# Altium schematic symbol library Microchip Power Management Battery Management.SchLib: 224 symbols (part 6 of 7)
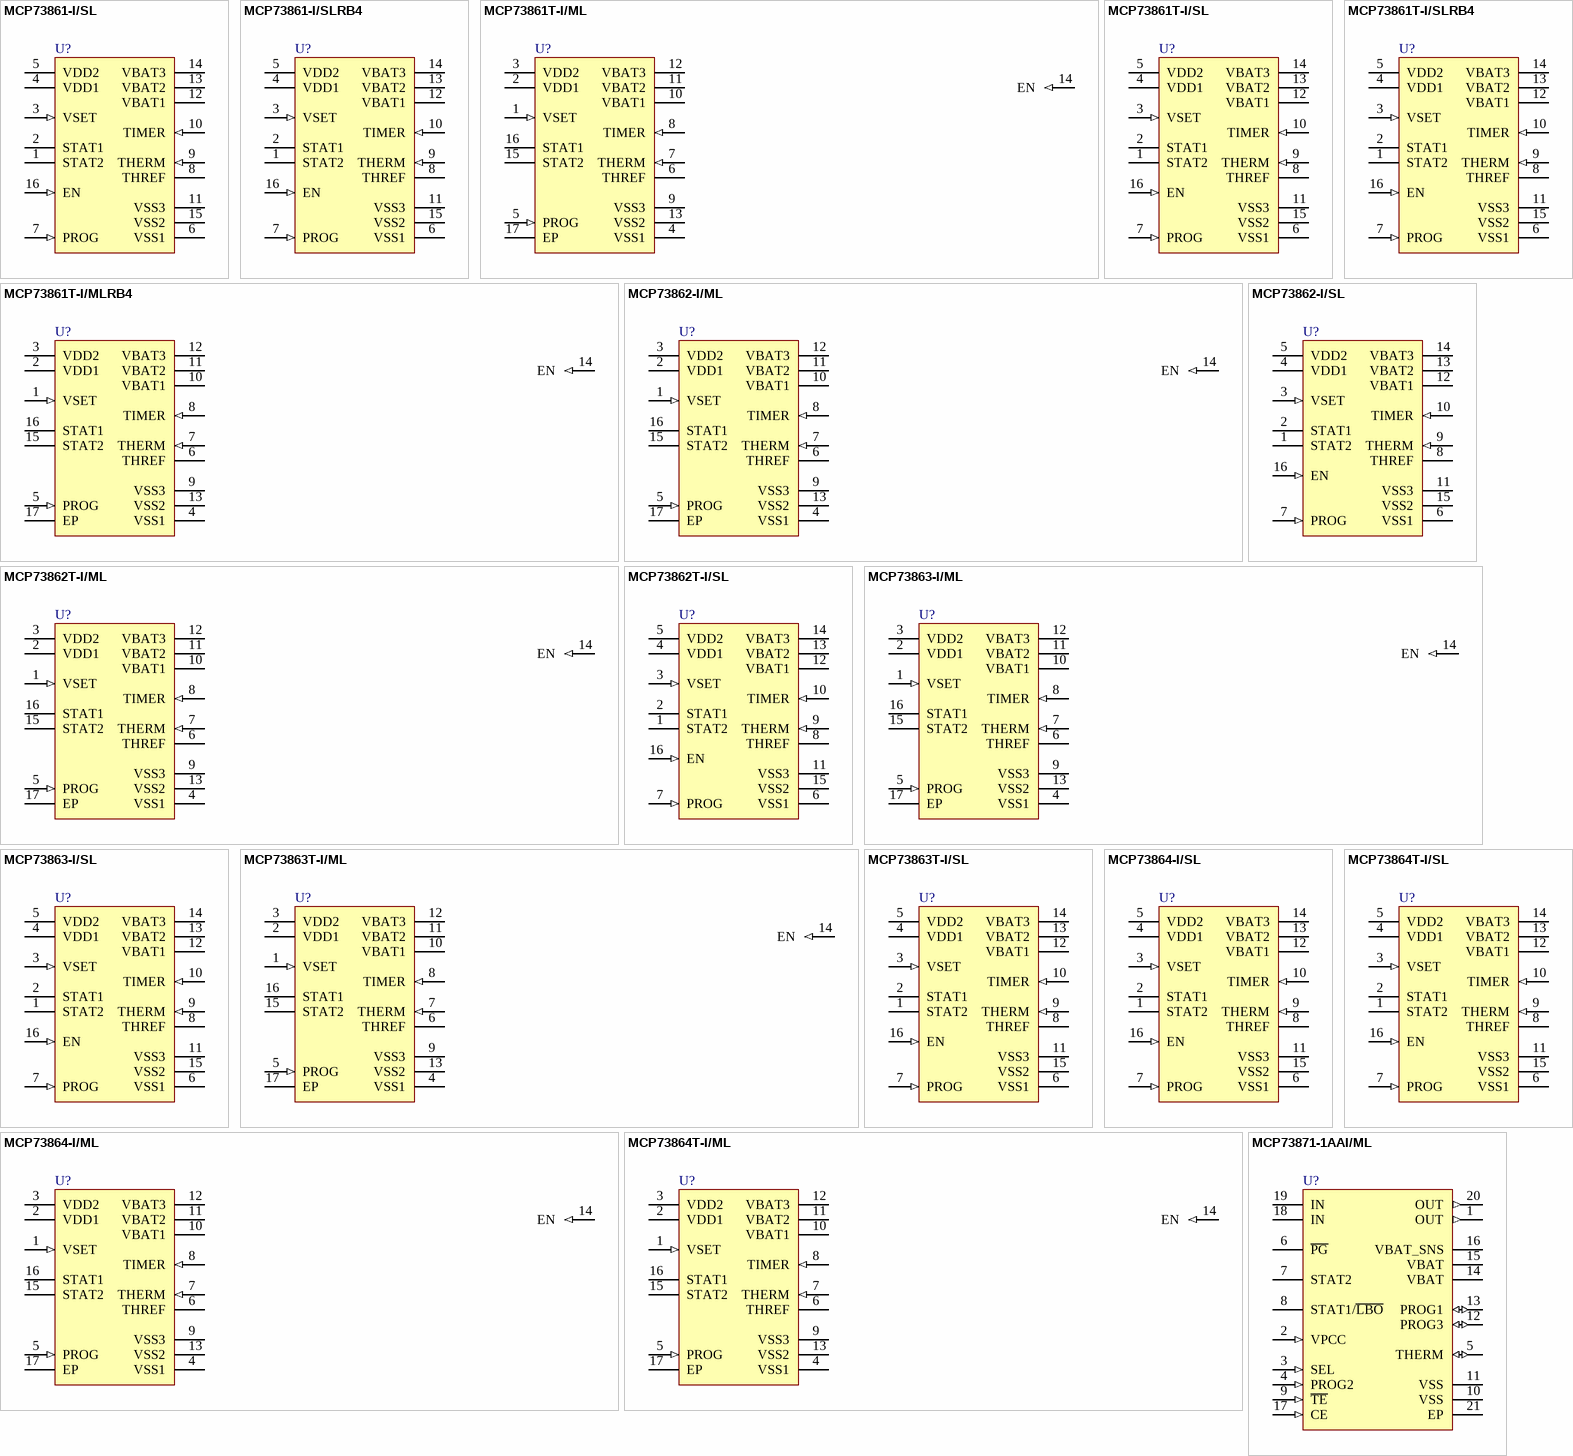
[diagram p11: symbols MCP73861-I/SL to MCP73871-1AAI/ML]

## MCP73861T-I/ML
designator U?
Single-Cell Li-Ion/Li-Polymer Charge Management Controller with Temperature Monitor, 4.1V, 16-Pin QFN, Industrial Temperature, Tape and Reel; Manufacturer: Microchip; PartNumber: MCP73861T-I/ML; DatasheetVersion: revD, Dec-2008; PackageVersion: revBB, Aug-2009; PackageReference: QFN-ML16; PackageDescription: 16-Lead Plastic Quad Flat, No Lead Package (ML) - 4x4x0.9 mm Body [QFN]; Supplier 1: Digi-Key; Supplier Part Number 1: MCP73861T-I/ML-ND; Supplier 2: Mouser; Supplier Part Number 2: 579-MCP73861T-I/ML; Mounting Technology: Surface Mount; Code_JEDEC: MO-220; Code_IPC: QFN65P400X400-16V2; ComponentLink1Description: Manufacturer URL; ComponentLink1URL: http://www.microchip.com/; ComponentLink2Description: Datasheet; ComponentLink2URL: http://ww1.microchip.com/downloads/en/DeviceDoc/21893d.pdf; ComponentLink3Description: Package Specification; ComponentLink3URL: http://www.microchip.com/stellent/groups/techpub_sg/documents/packagingspec/en012702.pdf
footprint QFN-ML16_N (QFN, 16-Leads, Body 4x4mm, Pitch 0.65mm, Thermal Pad 2.8x2.8mm, IPC Medium Density)
footprint QFN-ML16_L (QFN, 16-Leads, Body 4x4mm, Pitch 0.65mm, Thermal Pad 2.8x2.8mm, IPC High Density)
footprint QFN-ML16_M (QFN, 16-Leads, Body 4x4mm, Pitch 0.65mm, Thermal Pad 2.8x2.8mm, IPC Low Density)
pins: 1 VSET (in), 2 VDD1 (power), 3 VDD2 (power), 4 VSS1 (power), 5 PROG (in), 6 THREF (power), 7 THERM (in), 8 TIMER (in), 9 VSS3 (power), 10 VBAT1 (power), 11 VBAT2 (power), 12 VBAT3 (power), 13 VSS2 (power), 14 EN (in), 15 STAT2 (oc), 16 STAT1 (oc), 17 EP (power)

## MCP73861T-I/MLRB4
designator U?
Single-Cell Li-Ion/Li-Polymer Charge Management Controller with Temperature Monitor, 4.1V, 16-Pin QFN, Industrial Temperature, Tape and Reel; Manufacturer: Microchip; PartNumber: MCP73861T-I/MLRB4; DatasheetVersion: revD, Dec-2008; PackageVersion: revBB, Aug-2009; PackageReference: QFN-ML16; PackageDescription: 16-Lead Plastic Quad Flat, No Lead Package (ML) - 4x4x0.9 mm Body [QFN]; Mounting Technology: Surface Mount; Code_JEDEC: MO-220; Code_IPC: QFN65P400X400-16V2; ComponentLink1Description: Manufacturer URL; ComponentLink1URL: http://www.microchip.com/; ComponentLink2Description: Datasheet; ComponentLink2URL: http://ww1.microchip.com/downloads/en/DeviceDoc/21893d.pdf; ComponentLink3Description: Package Specification; ComponentLink3URL: http://www.microchip.com/stellent/groups/techpub_sg/documents/packagingspec/en012702.pdf
footprint QFN-ML16_N (QFN, 16-Leads, Body 4x4mm, Pitch 0.65mm, Thermal Pad 2.8x2.8mm, IPC Medium Density)
footprint QFN-ML16_L (QFN, 16-Leads, Body 4x4mm, Pitch 0.65mm, Thermal Pad 2.8x2.8mm, IPC High Density)
footprint QFN-ML16_M (QFN, 16-Leads, Body 4x4mm, Pitch 0.65mm, Thermal Pad 2.8x2.8mm, IPC Low Density)
pins: 1 VSET (in), 2 VDD1 (power), 3 VDD2 (power), 4 VSS1 (power), 5 PROG (in), 6 THREF (power), 7 THERM (in), 8 TIMER (in), 9 VSS3 (power), 10 VBAT1 (power), 11 VBAT2 (power), 12 VBAT3 (power), 13 VSS2 (power), 14 EN (in), 15 STAT2 (oc), 16 STAT1 (oc), 17 EP (power)

## MCP73861T-I/SL
designator U?
Single-Cell Li-Ion/Li-Polymer Charge Management Controller with Temperature Monitor, 4.1V, 16-Pin SOIC 150mil, Industrial Temperature, Tape and Reel; Manufacturer: Microchip; PartNumber: MCP73861T-I/SL; DatasheetVersion: revD, Dec-2008; PackageVersion: revBB, Aug-2009; PackageReference: SOIC-SL16; PackageDescription: 16-Lead Plastic Small Outline (SL) - Narrow, 3.90mm Body [SOIC]; Supplier 1: Digi-Key; Supplier Part Number 1: MCP73861T-I/SL-ND; Supplier 2: Newark; Supplier Part Number 2: 42M2330; Supplier 3: Mouser; Supplier Part Number 3: 579-MCP73861T-I/SL; Mounting Technology: Surface Mount; Code_JEDEC: MS-012-AC; Code_IPC: SOIC127P600-16; ComponentLink1Description: Manufacturer URL; ComponentLink1URL: http://www.microchip.com/; ComponentLink2Description: Datasheet; ComponentLink2URL: http://ww1.microchip.com/downloads/en/DeviceDoc/21893d.pdf; ComponentLink3Description: Package Specification; ComponentLink3URL: http://www.microchip.com/stellent/groups/techpub_sg/documents/packagingspec/en012702.pdf
footprint SOIC-SL16_N (SOIC, 16-Leads, Body 9.9x3.9mm, Pitch 1.27mm, IPC Medium Density)
footprint SOIC-SL16_L (SOIC, 16-Leads, Body 9.9x3.9mm, Pitch 1.27mm, IPC High Density)
footprint SOIC-SL16_M (SOIC, 16-Leads, Body 9.9x3.9mm, Pitch 1.27mm, IPC Low Density)
pins: 1 STAT2 (oc), 2 STAT1 (oc), 3 VSET (in), 4 VDD1 (power), 5 VDD2 (power), 6 VSS1 (power), 7 PROG (in), 8 THREF (power), 9 THERM (in), 10 TIMER (in), 11 VSS3 (power), 12 VBAT1 (power), 13 VBAT2 (power), 14 VBAT3 (power), 15 VSS2 (power), 16 EN (in)

## MCP73861T-I/SLRB4
designator U?
Single-Cell Li-Ion/Li-Polymer Charge Management Controller with Temperature Monitor, 4.1V, 16-Pin SOIC 150mil, Industrial Temperature, Tape and Reel; Manufacturer: Microchip; PartNumber: MCP73861T-I/SLRB4; DatasheetVersion: revD, Dec-2008; PackageVersion: revBB, Aug-2009; PackageReference: SOIC-SL16; PackageDescription: 16-Lead Plastic Small Outline (SL) - Narrow, 3.90mm Body [SOIC]; Mounting Technology: Surface Mount; Code_JEDEC: MS-012-AC; Code_IPC: SOIC127P600-16; ComponentLink1Description: Manufacturer URL; ComponentLink1URL: http://www.microchip.com/; ComponentLink2Description: Datasheet; ComponentLink2URL: http://ww1.microchip.com/downloads/en/DeviceDoc/21893d.pdf; ComponentLink3Description: Package Specification; ComponentLink3URL: http://www.microchip.com/stellent/groups/techpub_sg/documents/packagingspec/en012702.pdf
footprint SOIC-SL16_N (SOIC, 16-Leads, Body 9.9x3.9mm, Pitch 1.27mm, IPC Medium Density)
footprint SOIC-SL16_L (SOIC, 16-Leads, Body 9.9x3.9mm, Pitch 1.27mm, IPC High Density)
footprint SOIC-SL16_M (SOIC, 16-Leads, Body 9.9x3.9mm, Pitch 1.27mm, IPC Low Density)
pins: 1 STAT2 (oc), 2 STAT1 (oc), 3 VSET (in), 4 VDD1 (power), 5 VDD2 (power), 6 VSS1 (power), 7 PROG (in), 8 THREF (power), 9 THERM (in), 10 TIMER (in), 11 VSS3 (power), 12 VBAT1 (power), 13 VBAT2 (power), 14 VBAT3 (power), 15 VSS2 (power), 16 EN (in)

## MCP73862-I/ML
designator U?
Dual Series cell Li-Ion/Li-Polymer Charge Management Controller with Temperature Monitor, 8.2V, 16-Pin QFN, Industrial Temperature; Manufacturer: Microchip; PartNumber: MCP73862-I/ML; DatasheetVersion: revD, Dec-2008; PackageVersion: revBB, Aug-2009; PackageReference: QFN-ML16; PackageDescription: 16-Lead Plastic Quad Flat, No Lead Package (ML) - 4x4x0.9 mm Body [QFN]; Supplier 1: Digi-Key; Supplier Part Number 1: MCP73862-I/ML-ND; Supplier 2: Mouser; Supplier Part Number 2: 579-MCP73862-I/ML; Mounting Technology: Surface Mount; Code_JEDEC: MO-220; Code_IPC: QFN65P400X400-16V2; ComponentLink1Description: Manufacturer URL; ComponentLink1URL: http://www.microchip.com/; ComponentLink2Description: Datasheet; ComponentLink2URL: http://ww1.microchip.com/downloads/en/DeviceDoc/21893d.pdf; ComponentLink3Description: Package Specification; ComponentLink3URL: http://www.microchip.com/stellent/groups/techpub_sg/documents/packagingspec/en012702.pdf
footprint QFN-ML16_N (QFN, 16-Leads, Body 4x4mm, Pitch 0.65mm, Thermal Pad 2.8x2.8mm, IPC Medium Density)
footprint QFN-ML16_L (QFN, 16-Leads, Body 4x4mm, Pitch 0.65mm, Thermal Pad 2.8x2.8mm, IPC High Density)
footprint QFN-ML16_M (QFN, 16-Leads, Body 4x4mm, Pitch 0.65mm, Thermal Pad 2.8x2.8mm, IPC Low Density)
pins: 1 VSET (in), 2 VDD1 (power), 3 VDD2 (power), 4 VSS1 (power), 5 PROG (in), 6 THREF (power), 7 THERM (in), 8 TIMER (in), 9 VSS3 (power), 10 VBAT1 (power), 11 VBAT2 (power), 12 VBAT3 (power), 13 VSS2 (power), 14 EN (in), 15 STAT2 (oc), 16 STAT1 (oc), 17 EP (power)

## MCP73862-I/SL
designator U?
Dual Series cell Li-Ion/Li-Polymer Charge Management Controller with Temperature Monitor, 8.2V, 16-Pin SOIC 150mil, Industrial Temperature; Manufacturer: Microchip; PartNumber: MCP73862-I/SL; DatasheetVersion: revD, Dec-2008; PackageVersion: revBB, Aug-2009; PackageReference: SOIC-SL16; PackageDescription: 16-Lead Plastic Small Outline (SL) - Narrow, 3.90mm Body [SOIC]; Supplier 1: Digi-Key; Supplier Part Number 1: MCP73862-I/SL-ND; Supplier 2: Farnell; Supplier Part Number 2: 1332163; Supplier 3: Newark; Supplier Part Number 3: 34M7504; Supplier 4: Mouser; Supplier Part Number 4: 579-MCP73862-I/SL; Mounting Technology: Surface Mount; Code_JEDEC: MS-012-AC; Code_IPC: SOIC127P600-16; ComponentLink1Description: Manufacturer URL; ComponentLink1URL: http://www.microchip.com/; ComponentLink2Description: Datasheet; ComponentLink2URL: http://ww1.microchip.com/downloads/en/DeviceDoc/21893d.pdf; ComponentLink3Description: Package Specification; ComponentLink3URL: http://www.microchip.com/stellent/groups/techpub_sg/documents/packagingspec/en012702.pdf
footprint SOIC-SL16_N (SOIC, 16-Leads, Body 9.9x3.9mm, Pitch 1.27mm, IPC Medium Density)
footprint SOIC-SL16_L (SOIC, 16-Leads, Body 9.9x3.9mm, Pitch 1.27mm, IPC High Density)
footprint SOIC-SL16_M (SOIC, 16-Leads, Body 9.9x3.9mm, Pitch 1.27mm, IPC Low Density)
pins: 1 STAT2 (oc), 2 STAT1 (oc), 3 VSET (in), 4 VDD1 (power), 5 VDD2 (power), 6 VSS1 (power), 7 PROG (in), 8 THREF (power), 9 THERM (in), 10 TIMER (in), 11 VSS3 (power), 12 VBAT1 (power), 13 VBAT2 (power), 14 VBAT3 (power), 15 VSS2 (power), 16 EN (in)

## MCP73862T-I/ML
designator U?
Dual Series cell Li-Ion/Li-Polymer Charge Management Controller with Temperature Monitor, 8.2V, 16-Pin QFN, Industrial Temperature, Tape and Reel; Manufacturer: Microchip; PartNumber: MCP73862T-I/ML; DatasheetVersion: revD, Dec-2008; PackageVersion: revBB, Aug-2009; PackageReference: QFN-ML16; PackageDescription: 16-Lead Plastic Quad Flat, No Lead Package (ML) - 4x4x0.9 mm Body [QFN]; Supplier 1: Digi-Key; Supplier Part Number 1: MCP73862T-I/MLTR-ND; Supplier 2: Digi-Key; Supplier Part Number 2: MCP73862T-I/MLCT-ND; Supplier 3: Digi-Key; Supplier Part Number 3: MCP73862T-I/MLDKR-ND; Supplier 4: Mouser; Supplier Part Number 4: 579-MCP73862T-I/ML; Mounting Technology: Surface Mount; Code_JEDEC: MO-220; Code_IPC: QFN65P400X400-16V2; ComponentLink1Description: Manufacturer URL; ComponentLink1URL: http://www.microchip.com/; ComponentLink2Description: Datasheet; ComponentLink2URL: http://ww1.microchip.com/downloads/en/DeviceDoc/21893d.pdf; ComponentLink3Description: Package Specification; ComponentLink3URL: http://www.microchip.com/stellent/groups/techpub_sg/documents/packagingspec/en012702.pdf
footprint QFN-ML16_N (QFN, 16-Leads, Body 4x4mm, Pitch 0.65mm, Thermal Pad 2.8x2.8mm, IPC Medium Density)
footprint QFN-ML16_L (QFN, 16-Leads, Body 4x4mm, Pitch 0.65mm, Thermal Pad 2.8x2.8mm, IPC High Density)
footprint QFN-ML16_M (QFN, 16-Leads, Body 4x4mm, Pitch 0.65mm, Thermal Pad 2.8x2.8mm, IPC Low Density)
pins: 1 VSET (in), 2 VDD1 (power), 3 VDD2 (power), 4 VSS1 (power), 5 PROG (in), 6 THREF (power), 7 THERM (in), 8 TIMER (in), 9 VSS3 (power), 10 VBAT1 (power), 11 VBAT2 (power), 12 VBAT3 (power), 13 VSS2 (power), 14 EN (in), 15 STAT2 (oc), 16 STAT1 (oc), 17 EP (power)

## MCP73862T-I/SL
designator U?
Dual Series cell Li-Ion/Li-Polymer Charge Management Controller with Temperature Monitor, 8.2V, 16-Pin SOIC 150mil, Industrial Temperature, Tape and Reel; Manufacturer: Microchip; PartNumber: MCP73862T-I/SL; DatasheetVersion: revD, Dec-2008; PackageVersion: revBB, Aug-2009; PackageReference: SOIC-SL16; PackageDescription: 16-Lead Plastic Small Outline (SL) - Narrow, 3.90mm Body [SOIC]; Supplier 1: Digi-Key; Supplier Part Number 1: MCP73862T-I/SL-ND; Supplier 2: Mouser; Supplier Part Number 2: 579-MCP73862T-I/SL; Mounting Technology: Surface Mount; Code_JEDEC: MS-012-AC; Code_IPC: SOIC127P600-16; ComponentLink1Description: Manufacturer URL; ComponentLink1URL: http://www.microchip.com/; ComponentLink2Description: Datasheet; ComponentLink2URL: http://ww1.microchip.com/downloads/en/DeviceDoc/21893d.pdf; ComponentLink3Description: Package Specification; ComponentLink3URL: http://www.microchip.com/stellent/groups/techpub_sg/documents/packagingspec/en012702.pdf
footprint SOIC-SL16_N (SOIC, 16-Leads, Body 9.9x3.9mm, Pitch 1.27mm, IPC Medium Density)
footprint SOIC-SL16_L (SOIC, 16-Leads, Body 9.9x3.9mm, Pitch 1.27mm, IPC High Density)
footprint SOIC-SL16_M (SOIC, 16-Leads, Body 9.9x3.9mm, Pitch 1.27mm, IPC Low Density)
pins: 1 STAT2 (oc), 2 STAT1 (oc), 3 VSET (in), 4 VDD1 (power), 5 VDD2 (power), 6 VSS1 (power), 7 PROG (in), 8 THREF (power), 9 THERM (in), 10 TIMER (in), 11 VSS3 (power), 12 VBAT1 (power), 13 VBAT2 (power), 14 VBAT3 (power), 15 VSS2 (power), 16 EN (in)

## MCP73863-I/ML
designator U?
Single-Cell Li-Ion/Li-Polymer Charge Management Controller with Temperature Monitor, 4.2V, 16-Pin QFN, Industrial Temperature; Manufacturer: Microchip; PartNumber: MCP73863-I/ML; DatasheetVersion: revD, Dec-2008; PackageVersion: revBB, Aug-2009; PackageReference: QFN-ML16; PackageDescription: 16-Lead Plastic Quad Flat, No Lead Package (ML) - 4x4x0.9 mm Body [QFN]; Supplier 1: Digi-Key; Supplier Part Number 1: MCP73863-I/ML-ND; Supplier 2: Newark; Supplier Part Number 2: 56K7052; Supplier 3: Mouser; Supplier Part Number 3: 579-MCP73863-I/ML; Mounting Technology: Surface Mount; Code_JEDEC: MO-220; Code_IPC: QFN65P400X400-16V2; ComponentLink1Description: Manufacturer URL; ComponentLink1URL: http://www.microchip.com/; ComponentLink2Description: Datasheet; ComponentLink2URL: http://ww1.microchip.com/downloads/en/DeviceDoc/21893d.pdf; ComponentLink3Description: Package Specification; ComponentLink3URL: http://www.microchip.com/stellent/groups/techpub_sg/documents/packagingspec/en012702.pdf
footprint QFN-ML16_N (QFN, 16-Leads, Body 4x4mm, Pitch 0.65mm, Thermal Pad 2.8x2.8mm, IPC Medium Density)
footprint QFN-ML16_L (QFN, 16-Leads, Body 4x4mm, Pitch 0.65mm, Thermal Pad 2.8x2.8mm, IPC High Density)
footprint QFN-ML16_M (QFN, 16-Leads, Body 4x4mm, Pitch 0.65mm, Thermal Pad 2.8x2.8mm, IPC Low Density)
pins: 1 VSET (in), 2 VDD1 (power), 3 VDD2 (power), 4 VSS1 (power), 5 PROG (in), 6 THREF (power), 7 THERM (in), 8 TIMER (in), 9 VSS3 (power), 10 VBAT1 (power), 11 VBAT2 (power), 12 VBAT3 (power), 13 VSS2 (power), 14 EN (in), 15 STAT2 (oc), 16 STAT1 (oc), 17 EP (power)

## MCP73863-I/SL
designator U?
Single-Cell Li-Ion/Li-Polymer Charge Management Controller with Temperature Monitor, 4.2V, 16-Pin SOIC 150mil, Industrial Temperature; Manufacturer: Microchip; PartNumber: MCP73863-I/SL; DatasheetVersion: revD, Dec-2008; PackageVersion: revBB, Aug-2009; PackageReference: SOIC-SL16; PackageDescription: 16-Lead Plastic Small Outline (SL) - Narrow, 3.90mm Body [SOIC]; Supplier 1: Digi-Key; Supplier Part Number 1: MCP73863-I/SL-ND; Supplier 2: Farnell; Supplier Part Number 2: 1439481; Supplier 3: Newark; Supplier Part Number 3: 58M8989; Supplier 4: Newark; Supplier Part Number 4: 56K7053; Supplier 5: Mouser; Supplier Part Number 5: 579-MCP73863-I/SL; Mounting Technology: Surface Mount; Code_JEDEC: MS-012-AC; Code_IPC: SOIC127P600-16; ComponentLink1Description: Manufacturer URL; ComponentLink1URL: http://www.microchip.com/; ComponentLink2Description: Datasheet; ComponentLink2URL: http://ww1.microchip.com/downloads/en/DeviceDoc/21893d.pdf; ComponentLink3Description: Package Specification; ComponentLink3URL: http://www.microchip.com/stellent/groups/techpub_sg/documents/packagingspec/en012702.pdf
footprint SOIC-SL16_N (SOIC, 16-Leads, Body 9.9x3.9mm, Pitch 1.27mm, IPC Medium Density)
footprint SOIC-SL16_L (SOIC, 16-Leads, Body 9.9x3.9mm, Pitch 1.27mm, IPC High Density)
footprint SOIC-SL16_M (SOIC, 16-Leads, Body 9.9x3.9mm, Pitch 1.27mm, IPC Low Density)
pins: 1 STAT2 (oc), 2 STAT1 (oc), 3 VSET (in), 4 VDD1 (power), 5 VDD2 (power), 6 VSS1 (power), 7 PROG (in), 8 THREF (power), 9 THERM (in), 10 TIMER (in), 11 VSS3 (power), 12 VBAT1 (power), 13 VBAT2 (power), 14 VBAT3 (power), 15 VSS2 (power), 16 EN (in)

## MCP73863T-I/ML
designator U?
Single-Cell Li-Ion/Li-Polymer Charge Management Controller with Temperature Monitor, 4.2V, 16-Pin QFN, Industrial Temperature, Tape and Reel; Manufacturer: Microchip; PartNumber: MCP73863T-I/ML; DatasheetVersion: revD, Dec-2008; PackageVersion: revBB, Aug-2009; PackageReference: QFN-ML16; PackageDescription: 16-Lead Plastic Quad Flat, No Lead Package (ML) - 4x4x0.9 mm Body [QFN]; Supplier 1: Digi-Key; Supplier Part Number 1: MCP73863T-I/ML-ND; Supplier 2: Mouser; Supplier Part Number 2: 579-MCP73863T-I/ML; Mounting Technology: Surface Mount; Code_JEDEC: MO-220; Code_IPC: QFN65P400X400-16V2; ComponentLink1Description: Manufacturer URL; ComponentLink1URL: http://www.microchip.com/; ComponentLink2Description: Datasheet; ComponentLink2URL: http://ww1.microchip.com/downloads/en/DeviceDoc/21893d.pdf; ComponentLink3Description: Package Specification; ComponentLink3URL: http://www.microchip.com/stellent/groups/techpub_sg/documents/packagingspec/en012702.pdf
footprint QFN-ML16_N (QFN, 16-Leads, Body 4x4mm, Pitch 0.65mm, Thermal Pad 2.8x2.8mm, IPC Medium Density)
footprint QFN-ML16_L (QFN, 16-Leads, Body 4x4mm, Pitch 0.65mm, Thermal Pad 2.8x2.8mm, IPC High Density)
footprint QFN-ML16_M (QFN, 16-Leads, Body 4x4mm, Pitch 0.65mm, Thermal Pad 2.8x2.8mm, IPC Low Density)
pins: 1 VSET (in), 2 VDD1 (power), 3 VDD2 (power), 4 VSS1 (power), 5 PROG (in), 6 THREF (power), 7 THERM (in), 8 TIMER (in), 9 VSS3 (power), 10 VBAT1 (power), 11 VBAT2 (power), 12 VBAT3 (power), 13 VSS2 (power), 14 EN (in), 15 STAT2 (oc), 16 STAT1 (oc), 17 EP (power)

## MCP73863T-I/SL
designator U?
Single-Cell Li-Ion/Li-Polymer Charge Management Controller with Temperature Monitor, 4.2V, 16-Pin SOIC 150mil, Industrial Temperature, Tape and Reel; Manufacturer: Microchip; PartNumber: MCP73863T-I/SL; DatasheetVersion: revD, Dec-2008; PackageVersion: revBB, Aug-2009; PackageReference: SOIC-SL16; PackageDescription: 16-Lead Plastic Small Outline (SL) - Narrow, 3.90mm Body [SOIC]; Supplier 1: Digi-Key; Supplier Part Number 1: MCP73863T-I/SL-ND; Supplier 2: Mouser; Supplier Part Number 2: 579-MCP73863T-I/SL; Mounting Technology: Surface Mount; Code_JEDEC: MS-012-AC; Code_IPC: SOIC127P600-16; ComponentLink1Description: Manufacturer URL; ComponentLink1URL: http://www.microchip.com/; ComponentLink2Description: Datasheet; ComponentLink2URL: http://ww1.microchip.com/downloads/en/DeviceDoc/21893d.pdf; ComponentLink3Description: Package Specification; ComponentLink3URL: http://www.microchip.com/stellent/groups/techpub_sg/documents/packagingspec/en012702.pdf
footprint SOIC-SL16_N (SOIC, 16-Leads, Body 9.9x3.9mm, Pitch 1.27mm, IPC Medium Density)
footprint SOIC-SL16_L (SOIC, 16-Leads, Body 9.9x3.9mm, Pitch 1.27mm, IPC High Density)
footprint SOIC-SL16_M (SOIC, 16-Leads, Body 9.9x3.9mm, Pitch 1.27mm, IPC Low Density)
pins: 1 STAT2 (oc), 2 STAT1 (oc), 3 VSET (in), 4 VDD1 (power), 5 VDD2 (power), 6 VSS1 (power), 7 PROG (in), 8 THREF (power), 9 THERM (in), 10 TIMER (in), 11 VSS3 (power), 12 VBAT1 (power), 13 VBAT2 (power), 14 VBAT3 (power), 15 VSS2 (power), 16 EN (in)

## MCP73864-I/ML
designator U?
Dual Series cell Li-Ion/Li-Polymer Charge Management Controller with Temperature Monitor, 8.4V, 16-Pin QFN, Industrial Temperature; Manufacturer: Microchip; PartNumber: MCP73864-I/ML; DatasheetVersion: revD, Dec-2008; PackageVersion: revBB, Aug-2009; PackageReference: QFN-ML16; PackageDescription: 16-Lead Plastic Quad Flat, No Lead Package (ML) - 4x4x0.9 mm Body [QFN]; Supplier 1: Digi-Key; Supplier Part Number 1: MCP73864-I/ML-ND; Supplier 2: Newark; Supplier Part Number 2: 56K7056; Supplier 3: Mouser; Supplier Part Number 3: 579-MCP73864-I/ML; Mounting Technology: Surface Mount; Code_JEDEC: MO-220; Code_IPC: QFN65P400X400-16V2; ComponentLink1Description: Manufacturer URL; ComponentLink1URL: http://www.microchip.com/; ComponentLink2Description: Datasheet; ComponentLink2URL: http://ww1.microchip.com/downloads/en/DeviceDoc/21893d.pdf; ComponentLink3Description: Package Specification; ComponentLink3URL: http://www.microchip.com/stellent/groups/techpub_sg/documents/packagingspec/en012702.pdf
footprint QFN-ML16_N (QFN, 16-Leads, Body 4x4mm, Pitch 0.65mm, Thermal Pad 2.8x2.8mm, IPC Medium Density)
footprint QFN-ML16_L (QFN, 16-Leads, Body 4x4mm, Pitch 0.65mm, Thermal Pad 2.8x2.8mm, IPC High Density)
footprint QFN-ML16_M (QFN, 16-Leads, Body 4x4mm, Pitch 0.65mm, Thermal Pad 2.8x2.8mm, IPC Low Density)
pins: 1 VSET (in), 2 VDD1 (power), 3 VDD2 (power), 4 VSS1 (power), 5 PROG (in), 6 THREF (power), 7 THERM (in), 8 TIMER (in), 9 VSS3 (power), 10 VBAT1 (power), 11 VBAT2 (power), 12 VBAT3 (power), 13 VSS2 (power), 14 EN (in), 15 STAT2 (oc), 16 STAT1 (oc), 17 EP (power)

## MCP73864-I/SL
designator U?
Dual Series cell Li-Ion/Li-Polymer Charge Management Controller with Temperature Monitor, 8.4V, 16-Pin SOIC 150mil, Industrial Temperature; Manufacturer: Microchip; PartNumber: MCP73864-I/SL; DatasheetVersion: revD, Dec-2008; PackageVersion: revBB, Aug-2009; PackageReference: SOIC-SL16; PackageDescription: 16-Lead Plastic Small Outline (SL) - Narrow, 3.90mm Body [SOIC]; Supplier 1: Digi-Key; Supplier Part Number 1: MCP73864-I/SL-ND; Supplier 2: Farnell; Supplier Part Number 2: 1439482; Supplier 3: Newark; Supplier Part Number 3: 58M8990; Supplier 4: Newark; Supplier Part Number 4: 27M0235; Supplier 5: Mouser; Supplier Part Number 5: 579-MCP73864-I/SL; Mounting Technology: Surface Mount; Code_JEDEC: MS-012-AC; Code_IPC: SOIC127P600-16; ComponentLink1Description: Manufacturer URL; ComponentLink1URL: http://www.microchip.com/; ComponentLink2Description: Datasheet; ComponentLink2URL: http://ww1.microchip.com/downloads/en/DeviceDoc/21893d.pdf; ComponentLink3Description: Package Specification; ComponentLink3URL: http://www.microchip.com/stellent/groups/techpub_sg/documents/packagingspec/en012702.pdf
footprint SOIC-SL16_N (SOIC, 16-Leads, Body 9.9x3.9mm, Pitch 1.27mm, IPC Medium Density)
footprint SOIC-SL16_L (SOIC, 16-Leads, Body 9.9x3.9mm, Pitch 1.27mm, IPC High Density)
footprint SOIC-SL16_M (SOIC, 16-Leads, Body 9.9x3.9mm, Pitch 1.27mm, IPC Low Density)
pins: 1 STAT2 (oc), 2 STAT1 (oc), 3 VSET (in), 4 VDD1 (power), 5 VDD2 (power), 6 VSS1 (power), 7 PROG (in), 8 THREF (power), 9 THERM (in), 10 TIMER (in), 11 VSS3 (power), 12 VBAT1 (power), 13 VBAT2 (power), 14 VBAT3 (power), 15 VSS2 (power), 16 EN (in)

## MCP73864T-I/ML
designator U?
Dual Series cell Li-Ion/Li-Polymer Charge Management Controller with Temperature Monitor, 8.4V, 16-Pin QFN, Industrial Temperature, Tape and Reel; Manufacturer: Microchip; PartNumber: MCP73864T-I/ML; DatasheetVersion: revD, Dec-2008; PackageVersion: revBB, Aug-2009; PackageReference: QFN-ML16; PackageDescription: 16-Lead Plastic Quad Flat, No Lead Package (ML) - 4x4x0.9 mm Body [QFN]; Supplier 1: Digi-Key; Supplier Part Number 1: MCP73864T-I/ML-ND; Supplier 2: Mouser; Supplier Part Number 2: 579-MCP73864T-I/ML; Mounting Technology: Surface Mount; Code_JEDEC: MO-220; Code_IPC: QFN65P400X400-16V2; ComponentLink1Description: Manufacturer URL; ComponentLink1URL: http://www.microchip.com/; ComponentLink2Description: Datasheet; ComponentLink2URL: http://ww1.microchip.com/downloads/en/DeviceDoc/21893d.pdf; ComponentLink3Description: Package Specification; ComponentLink3URL: http://www.microchip.com/stellent/groups/techpub_sg/documents/packagingspec/en012702.pdf
footprint QFN-ML16_N (QFN, 16-Leads, Body 4x4mm, Pitch 0.65mm, Thermal Pad 2.8x2.8mm, IPC Medium Density)
footprint QFN-ML16_L (QFN, 16-Leads, Body 4x4mm, Pitch 0.65mm, Thermal Pad 2.8x2.8mm, IPC High Density)
footprint QFN-ML16_M (QFN, 16-Leads, Body 4x4mm, Pitch 0.65mm, Thermal Pad 2.8x2.8mm, IPC Low Density)
pins: 1 VSET (in), 2 VDD1 (power), 3 VDD2 (power), 4 VSS1 (power), 5 PROG (in), 6 THREF (power), 7 THERM (in), 8 TIMER (in), 9 VSS3 (power), 10 VBAT1 (power), 11 VBAT2 (power), 12 VBAT3 (power), 13 VSS2 (power), 14 EN (in), 15 STAT2 (oc), 16 STAT1 (oc), 17 EP (power)

## MCP73864T-I/SL
designator U?
Dual Series cell Li-Ion/Li-Polymer Charge Management Controller with Temperature Monitor, 8.4V, 16-Pin SOIC 150mil, Industrial Temperature, Tape and Reel; Manufacturer: Microchip; PartNumber: MCP73864T-I/SL; DatasheetVersion: revD, Dec-2008; PackageVersion: revBB, Aug-2009; PackageReference: SOIC-SL16; PackageDescription: 16-Lead Plastic Small Outline (SL) - Narrow, 3.90mm Body [SOIC]; Supplier 1: Digi-Key; Supplier Part Number 1: MCP73864T-I/SL-ND; Supplier 2: Mouser; Supplier Part Number 2: 579-MCP73864T-I/SL; Mounting Technology: Surface Mount; Code_JEDEC: MS-012-AC; Code_IPC: SOIC127P600-16; ComponentLink1Description: Manufacturer URL; ComponentLink1URL: http://www.microchip.com/; ComponentLink2Description: Datasheet; ComponentLink2URL: http://ww1.microchip.com/downloads/en/DeviceDoc/21893d.pdf; ComponentLink3Description: Package Specification; ComponentLink3URL: http://www.microchip.com/stellent/groups/techpub_sg/documents/packagingspec/en012702.pdf
footprint SOIC-SL16_N (SOIC, 16-Leads, Body 9.9x3.9mm, Pitch 1.27mm, IPC Medium Density)
footprint SOIC-SL16_L (SOIC, 16-Leads, Body 9.9x3.9mm, Pitch 1.27mm, IPC High Density)
footprint SOIC-SL16_M (SOIC, 16-Leads, Body 9.9x3.9mm, Pitch 1.27mm, IPC Low Density)
pins: 1 STAT2 (oc), 2 STAT1 (oc), 3 VSET (in), 4 VDD1 (power), 5 VDD2 (power), 6 VSS1 (power), 7 PROG (in), 8 THREF (power), 9 THERM (in), 10 TIMER (in), 11 VSS3 (power), 12 VBAT1 (power), 13 VBAT2 (power), 14 VBAT3 (power), 15 VSS2 (power), 16 EN (in)

## MCP73871-1AAI/ML
designator U?
Stand-Alone System Load Sharing and Li-Ion/Li-Polymer Battery Charge Management Controller, 4.1V, 20-Pin QFN, Industrial Temperature; Manufacturer: Microchip; PartNumber: MCP73871-1AAI/ML; DatasheetVersion: revB, May-2009; PackageVersion: revBB, Aug-2009; PackageReference: QFN-ML20; PackageDescription: 20-Lead Plastic Quad Flat, No Lead Package (ML) - 4x4x0.9 mm Body [QFN]; Mounting Technology: Surface Mount; ComponentLink1Description: Manufacturer URL; ComponentLink1URL: http://www.microchip.com/; ComponentLink2Description: Datasheet; ComponentLink2URL: http://ww1.microchip.com/downloads/en/DeviceDoc/22090b.pdf; ComponentLink3Description: Package Specification; ComponentLink3URL: http://www.microchip.com/stellent/groups/techpub_sg/documents/packagingspec/en012702.pdf
footprint QFN-ML20_N (QFN, 20-Leads, Body 4x4mm, Pitch 0.5mm, Thermal Pad 2.8x2.8mm, IPC Medium Density)
footprint QFN-ML20_L (QFN, 20-Leads, Body 4x4mm, Pitch 0.5mm, Thermal Pad 2.8x2.8mm, IPC High Density)
footprint QFN-ML20_M (QFN, 20-Leads, Body 4x4mm, Pitch 0.5mm, Thermal Pad 2.8x2.8mm, IPC Low Density)
pins: 1 OUT (out), 2 VPCC (in), 3 SEL (in), 4 PROG2 (in), 5 THERM (io), 6 ~{PG} (oc), 7 STAT2 (oc), 8 STAT1/~{LBO} (oc), 9 ~{TE} (in), 10 VSS (power), 11 VSS (power), 12 PROG3 (io), 13 PROG1 (io), 14 VBAT (power), 15 VBAT (power), 16 VBAT_SNS (power), 17 CE (in), 18 IN (power), 19 IN (power), 20 OUT (out), 21 EP (power)

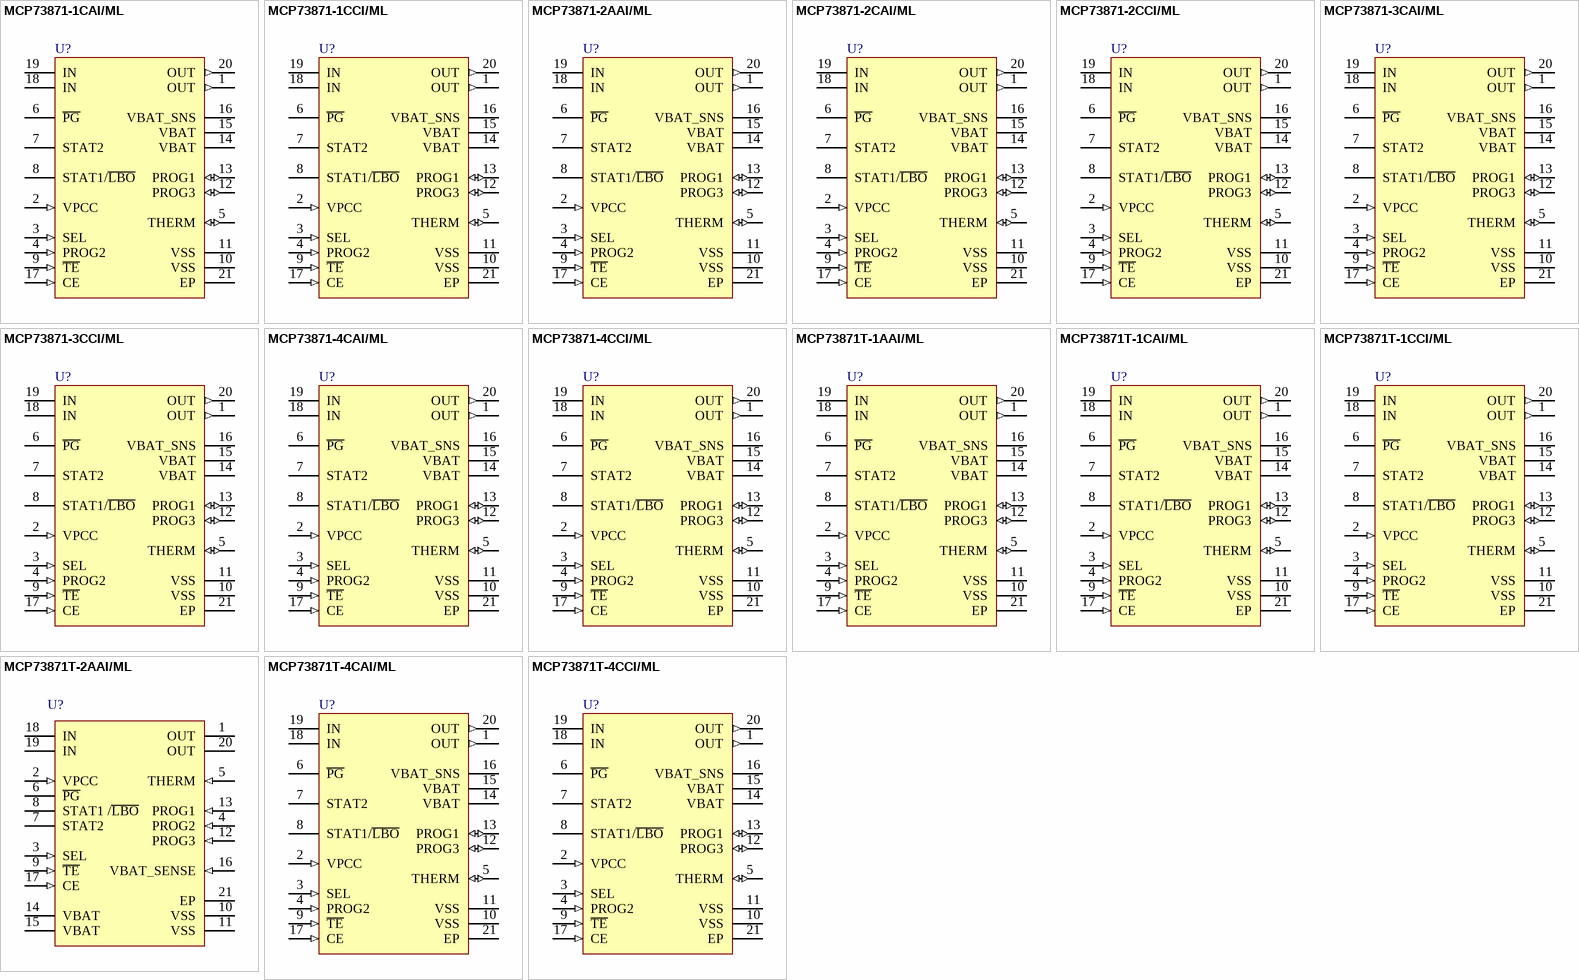
[diagram p6: symbols MCP73871-1CAI/ML to MCP73871T-4CCI/ML]

## MCP73871-1CAI/ML
designator U?
Stand-Alone System Load Sharing and Li-Ion/Li-Polymer Battery Charge Management Controller, 4.1V, 20-Pin QFN, Industrial Temperature; Manufacturer: Microchip; PartNumber: MCP73871-1CAI/ML; DatasheetVersion: revB, May-2009; PackageVersion: revBB, Aug-2009; PackageReference: QFN-ML20; PackageDescription: 20-Lead Plastic Quad Flat, No Lead Package (ML) - 4x4x0.9 mm Body [QFN]; Mounting Technology: Surface Mount; ComponentLink1Description: Manufacturer URL; ComponentLink1URL: http://www.microchip.com/; ComponentLink2Description: Datasheet; ComponentLink2URL: http://ww1.microchip.com/downloads/en/DeviceDoc/22090b.pdf; ComponentLink3Description: Package Specification; ComponentLink3URL: http://www.microchip.com/stellent/groups/techpub_sg/documents/packagingspec/en012702.pdf
footprint QFN-ML20_N (QFN, 20-Leads, Body 4x4mm, Pitch 0.5mm, Thermal Pad 2.8x2.8mm, IPC Medium Density)
footprint QFN-ML20_L (QFN, 20-Leads, Body 4x4mm, Pitch 0.5mm, Thermal Pad 2.8x2.8mm, IPC High Density)
footprint QFN-ML20_M (QFN, 20-Leads, Body 4x4mm, Pitch 0.5mm, Thermal Pad 2.8x2.8mm, IPC Low Density)
pins: 1 OUT (out), 2 VPCC (in), 3 SEL (in), 4 PROG2 (in), 5 THERM (io), 6 ~{PG} (oc), 7 STAT2 (oc), 8 STAT1/~{LBO} (oc), 9 ~{TE} (in), 10 VSS (power), 11 VSS (power), 12 PROG3 (io), 13 PROG1 (io), 14 VBAT (power), 15 VBAT (power), 16 VBAT_SNS (power), 17 CE (in), 18 IN (power), 19 IN (power), 20 OUT (out), 21 EP (power)

## MCP73871-1CCI/ML
designator U?
Stand-Alone System Load Sharing and Li-Ion/Li-Polymer Battery Charge Management Controller, 4.1V, 20-Pin QFN, Industrial Temperature; Manufacturer: Microchip; PartNumber: MCP73871-1CCI/ML; DatasheetVersion: revB, May-2009; PackageVersion: revBB, Aug-2009; PackageReference: QFN-ML20; PackageDescription: 20-Lead Plastic Quad Flat, No Lead Package (ML) - 4x4x0.9 mm Body [QFN]; Mounting Technology: Surface Mount; ComponentLink1Description: Manufacturer URL; ComponentLink1URL: http://www.microchip.com/; ComponentLink2Description: Datasheet; ComponentLink2URL: http://ww1.microchip.com/downloads/en/DeviceDoc/22090b.pdf; ComponentLink3Description: Package Specification; ComponentLink3URL: http://www.microchip.com/stellent/groups/techpub_sg/documents/packagingspec/en012702.pdf
footprint QFN-ML20_N (QFN, 20-Leads, Body 4x4mm, Pitch 0.5mm, Thermal Pad 2.8x2.8mm, IPC Medium Density)
footprint QFN-ML20_L (QFN, 20-Leads, Body 4x4mm, Pitch 0.5mm, Thermal Pad 2.8x2.8mm, IPC High Density)
footprint QFN-ML20_M (QFN, 20-Leads, Body 4x4mm, Pitch 0.5mm, Thermal Pad 2.8x2.8mm, IPC Low Density)
pins: 1 OUT (out), 2 VPCC (in), 3 SEL (in), 4 PROG2 (in), 5 THERM (io), 6 ~{PG} (oc), 7 STAT2 (oc), 8 STAT1/~{LBO} (oc), 9 ~{TE} (in), 10 VSS (power), 11 VSS (power), 12 PROG3 (io), 13 PROG1 (io), 14 VBAT (power), 15 VBAT (power), 16 VBAT_SNS (power), 17 CE (in), 18 IN (power), 19 IN (power), 20 OUT (out), 21 EP (power)

## MCP73871-2AAI/ML
designator U?
Stand-Alone System Load Sharing and Li-Ion/Li-Polymer Battery Charge Management Controller, 4.2V, 20-Pin QFN, Industrial Temperature; Manufacturer: Microchip; PartNumber: MCP73871-2AAI/ML; DatasheetVersion: revB, May-2009; PackageVersion: revBB, Aug-2009; PackageReference: QFN-ML20; PackageDescription: 20-Lead Plastic Quad Flat, No Lead Package (ML) - 4x4x0.9 mm Body [QFN]; Supplier 1: Digi-Key; Supplier Part Number 1: MCP73871-2AAI/ML-ND; Supplier 2: Farnell; Supplier Part Number 2: 1642487; Supplier 3: Newark; Supplier Part Number 3: 54M4955; Supplier 4: Mouser; Supplier Part Number 4: 579-MCP73871-2AAI/ML; Mounting Technology: Surface Mount; ComponentLink1Description: Manufacturer URL; ComponentLink1URL: http://www.microchip.com/; ComponentLink2Description: Datasheet; ComponentLink2URL: http://ww1.microchip.com/downloads/en/DeviceDoc/22090b.pdf; ComponentLink3Description: Package Specification; ComponentLink3URL: http://www.microchip.com/stellent/groups/techpub_sg/documents/packagingspec/en012702.pdf
footprint QFN-ML20_N (QFN, 20-Leads, Body 4x4mm, Pitch 0.5mm, Thermal Pad 2.8x2.8mm, IPC Medium Density)
footprint QFN-ML20_L (QFN, 20-Leads, Body 4x4mm, Pitch 0.5mm, Thermal Pad 2.8x2.8mm, IPC High Density)
footprint QFN-ML20_M (QFN, 20-Leads, Body 4x4mm, Pitch 0.5mm, Thermal Pad 2.8x2.8mm, IPC Low Density)
pins: 1 OUT (out), 2 VPCC (in), 3 SEL (in), 4 PROG2 (in), 5 THERM (io), 6 ~{PG} (oc), 7 STAT2 (oc), 8 STAT1/~{LBO} (oc), 9 ~{TE} (in), 10 VSS (power), 11 VSS (power), 12 PROG3 (io), 13 PROG1 (io), 14 VBAT (power), 15 VBAT (power), 16 VBAT_SNS (power), 17 CE (in), 18 IN (power), 19 IN (power), 20 OUT (out), 21 EP (power)

## MCP73871-2CAI/ML
designator U?
Stand-Alone System Load Sharing and Li-Ion/Li-Polymer Battery Charge Management Controller, 4.2V, 20-Pin QFN, Industrial Temperature; Manufacturer: Microchip; PartNumber: MCP73871-2CAI/ML; DatasheetVersion: revB, May-2009; PackageVersion: revBB, Aug-2009; PackageReference: QFN-ML20; PackageDescription: 20-Lead Plastic Quad Flat, No Lead Package (ML) - 4x4x0.9 mm Body [QFN]; Supplier 1: Digi-Key; Supplier Part Number 1: MCP73871-2CAI/ML-ND; Supplier 2: Farnell; Supplier Part Number 2: 1642488; Supplier 3: Newark; Supplier Part Number 3: 54M4956; Supplier 4: Mouser; Supplier Part Number 4: 579-MCP73871-2CAI/ML; Mounting Technology: Surface Mount; ComponentLink1Description: Manufacturer URL; ComponentLink1URL: http://www.microchip.com/; ComponentLink2Description: Datasheet; ComponentLink2URL: http://ww1.microchip.com/downloads/en/DeviceDoc/22090b.pdf; ComponentLink3Description: Package Specification; ComponentLink3URL: http://www.microchip.com/stellent/groups/techpub_sg/documents/packagingspec/en012702.pdf
footprint QFN-ML20_N (QFN, 20-Leads, Body 4x4mm, Pitch 0.5mm, Thermal Pad 2.8x2.8mm, IPC Medium Density)
footprint QFN-ML20_L (QFN, 20-Leads, Body 4x4mm, Pitch 0.5mm, Thermal Pad 2.8x2.8mm, IPC High Density)
footprint QFN-ML20_M (QFN, 20-Leads, Body 4x4mm, Pitch 0.5mm, Thermal Pad 2.8x2.8mm, IPC Low Density)
pins: 1 OUT (out), 2 VPCC (in), 3 SEL (in), 4 PROG2 (in), 5 THERM (io), 6 ~{PG} (oc), 7 STAT2 (oc), 8 STAT1/~{LBO} (oc), 9 ~{TE} (in), 10 VSS (power), 11 VSS (power), 12 PROG3 (io), 13 PROG1 (io), 14 VBAT (power), 15 VBAT (power), 16 VBAT_SNS (power), 17 CE (in), 18 IN (power), 19 IN (power), 20 OUT (out), 21 EP (power)

## MCP73871-2CCI/ML
designator U?
Stand-Alone System Load Sharing and Li-Ion/Li-Polymer Battery Charge Management Controller, 4.2V, 20-Pin QFN, Industrial Temperature; Manufacturer: Microchip; PartNumber: MCP73871-2CCI/ML; DatasheetVersion: revB, May-2009; PackageVersion: revBB, Aug-2009; PackageReference: QFN-ML20; PackageDescription: 20-Lead Plastic Quad Flat, No Lead Package (ML) - 4x4x0.9 mm Body [QFN]; Supplier 1: Digi-Key; Supplier Part Number 1: MCP73871-2CCI/ML-ND; Supplier 2: Farnell; Supplier Part Number 2: 1642489; Supplier 3: Newark; Supplier Part Number 3: 54M4957; Supplier 4: Mouser; Supplier Part Number 4: 579-MCP73871-2CCI/ML; Mounting Technology: Surface Mount; ComponentLink1Description: Manufacturer URL; ComponentLink1URL: http://www.microchip.com/; ComponentLink2Description: Datasheet; ComponentLink2URL: http://ww1.microchip.com/downloads/en/DeviceDoc/22090b.pdf; ComponentLink3Description: Package Specification; ComponentLink3URL: http://www.microchip.com/stellent/groups/techpub_sg/documents/packagingspec/en012702.pdf
footprint QFN-ML20_N (QFN, 20-Leads, Body 4x4mm, Pitch 0.5mm, Thermal Pad 2.8x2.8mm, IPC Medium Density)
footprint QFN-ML20_L (QFN, 20-Leads, Body 4x4mm, Pitch 0.5mm, Thermal Pad 2.8x2.8mm, IPC High Density)
footprint QFN-ML20_M (QFN, 20-Leads, Body 4x4mm, Pitch 0.5mm, Thermal Pad 2.8x2.8mm, IPC Low Density)
pins: 1 OUT (out), 2 VPCC (in), 3 SEL (in), 4 PROG2 (in), 5 THERM (io), 6 ~{PG} (oc), 7 STAT2 (oc), 8 STAT1/~{LBO} (oc), 9 ~{TE} (in), 10 VSS (power), 11 VSS (power), 12 PROG3 (io), 13 PROG1 (io), 14 VBAT (power), 15 VBAT (power), 16 VBAT_SNS (power), 17 CE (in), 18 IN (power), 19 IN (power), 20 OUT (out), 21 EP (power)

## MCP73871-3CAI/ML
designator U?
Stand-Alone System Load Sharing and Li-Ion/Li-Polymer Battery Charge Management Controller, 4.35V, 20-Pin QFN, Industrial Temperature; Manufacturer: Microchip; PartNumber: MCP73871-3CAI/ML; DatasheetVersion: revB, May-2009; PackageVersion: revBB, Aug-2009; PackageReference: QFN-ML20; PackageDescription: 20-Lead Plastic Quad Flat, No Lead Package (ML) - 4x4x0.9 mm Body [QFN]; Supplier 1: Digi-Key; Supplier Part Number 1: MCP73871-3CAI/ML-ND; Supplier 2: Mouser; Supplier Part Number 2: 579-MCP73871-3CAI/ML; Mounting Technology: Surface Mount; ComponentLink1Description: Manufacturer URL; ComponentLink1URL: http://www.microchip.com/; ComponentLink2Description: Datasheet; ComponentLink2URL: http://ww1.microchip.com/downloads/en/DeviceDoc/22090b.pdf; ComponentLink3Description: Package Specification; ComponentLink3URL: http://www.microchip.com/stellent/groups/techpub_sg/documents/packagingspec/en012702.pdf
footprint QFN-ML20_N (QFN, 20-Leads, Body 4x4mm, Pitch 0.5mm, Thermal Pad 2.8x2.8mm, IPC Medium Density)
footprint QFN-ML20_L (QFN, 20-Leads, Body 4x4mm, Pitch 0.5mm, Thermal Pad 2.8x2.8mm, IPC High Density)
footprint QFN-ML20_M (QFN, 20-Leads, Body 4x4mm, Pitch 0.5mm, Thermal Pad 2.8x2.8mm, IPC Low Density)
pins: 1 OUT (out), 2 VPCC (in), 3 SEL (in), 4 PROG2 (in), 5 THERM (io), 6 ~{PG} (oc), 7 STAT2 (oc), 8 STAT1/~{LBO} (oc), 9 ~{TE} (in), 10 VSS (power), 11 VSS (power), 12 PROG3 (io), 13 PROG1 (io), 14 VBAT (power), 15 VBAT (power), 16 VBAT_SNS (power), 17 CE (in), 18 IN (power), 19 IN (power), 20 OUT (out), 21 EP (power)

## MCP73871-3CCI/ML
designator U?
Stand-Alone System Load Sharing and Li-Ion/Li-Polymer Battery Charge Management Controller, 4.35V, 20-Pin QFN, Industrial Temperature; Manufacturer: Microchip; PartNumber: MCP73871-3CCI/ML; DatasheetVersion: revB, May-2009; PackageVersion: revBB, Aug-2009; PackageReference: QFN-ML20; PackageDescription: 20-Lead Plastic Quad Flat, No Lead Package (ML) - 4x4x0.9 mm Body [QFN]; Supplier 1: Digi-Key; Supplier Part Number 1: MCP73871-3CCI/ML-ND; Supplier 2: Mouser; Supplier Part Number 2: 579-MCP73871-3CCI/ML; Mounting Technology: Surface Mount; ComponentLink1Description: Manufacturer URL; ComponentLink1URL: http://www.microchip.com/; ComponentLink2Description: Datasheet; ComponentLink2URL: http://ww1.microchip.com/downloads/en/DeviceDoc/22090b.pdf; ComponentLink3Description: Package Specification; ComponentLink3URL: http://www.microchip.com/stellent/groups/techpub_sg/documents/packagingspec/en012702.pdf
footprint QFN-ML20_N (QFN, 20-Leads, Body 4x4mm, Pitch 0.5mm, Thermal Pad 2.8x2.8mm, IPC Medium Density)
footprint QFN-ML20_L (QFN, 20-Leads, Body 4x4mm, Pitch 0.5mm, Thermal Pad 2.8x2.8mm, IPC High Density)
footprint QFN-ML20_M (QFN, 20-Leads, Body 4x4mm, Pitch 0.5mm, Thermal Pad 2.8x2.8mm, IPC Low Density)
pins: 1 OUT (out), 2 VPCC (in), 3 SEL (in), 4 PROG2 (in), 5 THERM (io), 6 ~{PG} (oc), 7 STAT2 (oc), 8 STAT1/~{LBO} (oc), 9 ~{TE} (in), 10 VSS (power), 11 VSS (power), 12 PROG3 (io), 13 PROG1 (io), 14 VBAT (power), 15 VBAT (power), 16 VBAT_SNS (power), 17 CE (in), 18 IN (power), 19 IN (power), 20 OUT (out), 21 EP (power)

## MCP73871-4CAI/ML
designator U?
Stand-Alone System Load Sharing and Li-Ion/Li-Polymer Battery Charge Management Controller, 4.4V, 20-Pin QFN, Industrial Temperature; Manufacturer: Microchip; PartNumber: MCP73871-4CAI/ML; DatasheetVersion: revB, May-2009; PackageVersion: revBB, Aug-2009; PackageReference: QFN-ML20; PackageDescription: 20-Lead Plastic Quad Flat, No Lead Package (ML) - 4x4x0.9 mm Body [QFN]; Mounting Technology: Surface Mount; ComponentLink1Description: Manufacturer URL; ComponentLink1URL: http://www.microchip.com/; ComponentLink2Description: Datasheet; ComponentLink2URL: http://ww1.microchip.com/downloads/en/DeviceDoc/22090b.pdf; ComponentLink3Description: Package Specification; ComponentLink3URL: http://www.microchip.com/stellent/groups/techpub_sg/documents/packagingspec/en012702.pdf
footprint QFN-ML20_N (QFN, 20-Leads, Body 4x4mm, Pitch 0.5mm, Thermal Pad 2.8x2.8mm, IPC Medium Density)
footprint QFN-ML20_L (QFN, 20-Leads, Body 4x4mm, Pitch 0.5mm, Thermal Pad 2.8x2.8mm, IPC High Density)
footprint QFN-ML20_M (QFN, 20-Leads, Body 4x4mm, Pitch 0.5mm, Thermal Pad 2.8x2.8mm, IPC Low Density)
pins: 1 OUT (out), 2 VPCC (in), 3 SEL (in), 4 PROG2 (in), 5 THERM (io), 6 ~{PG} (oc), 7 STAT2 (oc), 8 STAT1/~{LBO} (oc), 9 ~{TE} (in), 10 VSS (power), 11 VSS (power), 12 PROG3 (io), 13 PROG1 (io), 14 VBAT (power), 15 VBAT (power), 16 VBAT_SNS (power), 17 CE (in), 18 IN (power), 19 IN (power), 20 OUT (out), 21 EP (power)

## MCP73871-4CCI/ML
designator U?
Stand-Alone System Load Sharing and Li-Ion/Li-Polymer Battery Charge Management Controller, 4.4V, 20-Pin QFN, Industrial Temperature; Manufacturer: Microchip; PartNumber: MCP73871-4CCI/ML; DatasheetVersion: revB, May-2009; PackageVersion: revBB, Aug-2009; PackageReference: QFN-ML20; PackageDescription: 20-Lead Plastic Quad Flat, No Lead Package (ML) - 4x4x0.9 mm Body [QFN]; Mounting Technology: Surface Mount; ComponentLink1Description: Manufacturer URL; ComponentLink1URL: http://www.microchip.com/; ComponentLink2Description: Datasheet; ComponentLink2URL: http://ww1.microchip.com/downloads/en/DeviceDoc/22090b.pdf; ComponentLink3Description: Package Specification; ComponentLink3URL: http://www.microchip.com/stellent/groups/techpub_sg/documents/packagingspec/en012702.pdf
footprint QFN-ML20_N (QFN, 20-Leads, Body 4x4mm, Pitch 0.5mm, Thermal Pad 2.8x2.8mm, IPC Medium Density)
footprint QFN-ML20_L (QFN, 20-Leads, Body 4x4mm, Pitch 0.5mm, Thermal Pad 2.8x2.8mm, IPC High Density)
footprint QFN-ML20_M (QFN, 20-Leads, Body 4x4mm, Pitch 0.5mm, Thermal Pad 2.8x2.8mm, IPC Low Density)
pins: 1 OUT (out), 2 VPCC (in), 3 SEL (in), 4 PROG2 (in), 5 THERM (io), 6 ~{PG} (oc), 7 STAT2 (oc), 8 STAT1/~{LBO} (oc), 9 ~{TE} (in), 10 VSS (power), 11 VSS (power), 12 PROG3 (io), 13 PROG1 (io), 14 VBAT (power), 15 VBAT (power), 16 VBAT_SNS (power), 17 CE (in), 18 IN (power), 19 IN (power), 20 OUT (out), 21 EP (power)

## MCP73871T-1AAI/ML
designator U?
Stand-Alone System Load Sharing and Li-Ion/Li-Polymer Battery Charge Management Controller, 4.1V, 20-Pin QFN, Industrial Temperature, Tape and Reel; Manufacturer: Microchip; PartNumber: MCP73871T-1AAI/ML; DatasheetVersion: revB, May-2009; PackageVersion: revBB, Aug-2009; PackageReference: QFN-ML20; PackageDescription: 20-Lead Plastic Quad Flat, No Lead Package (ML) - 4x4x0.9 mm Body [QFN]; Mounting Technology: Surface Mount; ComponentLink1Description: Manufacturer URL; ComponentLink1URL: http://www.microchip.com/; ComponentLink2Description: Datasheet; ComponentLink2URL: http://ww1.microchip.com/downloads/en/DeviceDoc/22090b.pdf; ComponentLink3Description: Package Specification; ComponentLink3URL: http://www.microchip.com/stellent/groups/techpub_sg/documents/packagingspec/en012702.pdf
footprint QFN-ML20_N (QFN, 20-Leads, Body 4x4mm, Pitch 0.5mm, Thermal Pad 2.8x2.8mm, IPC Medium Density)
footprint QFN-ML20_L (QFN, 20-Leads, Body 4x4mm, Pitch 0.5mm, Thermal Pad 2.8x2.8mm, IPC High Density)
footprint QFN-ML20_M (QFN, 20-Leads, Body 4x4mm, Pitch 0.5mm, Thermal Pad 2.8x2.8mm, IPC Low Density)
pins: 1 OUT (out), 2 VPCC (in), 3 SEL (in), 4 PROG2 (in), 5 THERM (io), 6 ~{PG} (oc), 7 STAT2 (oc), 8 STAT1/~{LBO} (oc), 9 ~{TE} (in), 10 VSS (power), 11 VSS (power), 12 PROG3 (io), 13 PROG1 (io), 14 VBAT (power), 15 VBAT (power), 16 VBAT_SNS (power), 17 CE (in), 18 IN (power), 19 IN (power), 20 OUT (out), 21 EP (power)

## MCP73871T-1CAI/ML
designator U?
Stand-Alone System Load Sharing and Li-Ion/Li-Polymer Battery Charge Management Controller, 4.1V, 20-Pin QFN, Industrial Temperature, Tape and Reel; Manufacturer: Microchip; PartNumber: MCP73871T-1CAI/ML; DatasheetVersion: revB, May-2009; PackageVersion: revBB, Aug-2009; PackageReference: QFN-ML20; PackageDescription: 20-Lead Plastic Quad Flat, No Lead Package (ML) - 4x4x0.9 mm Body [QFN]; Mounting Technology: Surface Mount; ComponentLink1Description: Manufacturer URL; ComponentLink1URL: http://www.microchip.com/; ComponentLink2Description: Datasheet; ComponentLink2URL: http://ww1.microchip.com/downloads/en/DeviceDoc/22090b.pdf; ComponentLink3Description: Package Specification; ComponentLink3URL: http://www.microchip.com/stellent/groups/techpub_sg/documents/packagingspec/en012702.pdf
footprint QFN-ML20_N (QFN, 20-Leads, Body 4x4mm, Pitch 0.5mm, Thermal Pad 2.8x2.8mm, IPC Medium Density)
footprint QFN-ML20_L (QFN, 20-Leads, Body 4x4mm, Pitch 0.5mm, Thermal Pad 2.8x2.8mm, IPC High Density)
footprint QFN-ML20_M (QFN, 20-Leads, Body 4x4mm, Pitch 0.5mm, Thermal Pad 2.8x2.8mm, IPC Low Density)
pins: 1 OUT (out), 2 VPCC (in), 3 SEL (in), 4 PROG2 (in), 5 THERM (io), 6 ~{PG} (oc), 7 STAT2 (oc), 8 STAT1/~{LBO} (oc), 9 ~{TE} (in), 10 VSS (power), 11 VSS (power), 12 PROG3 (io), 13 PROG1 (io), 14 VBAT (power), 15 VBAT (power), 16 VBAT_SNS (power), 17 CE (in), 18 IN (power), 19 IN (power), 20 OUT (out), 21 EP (power)

## MCP73871T-1CCI/ML
designator U?
Stand-Alone System Load Sharing and Li-Ion/Li-Polymer Battery Charge Management Controller, 4.1V, 20-Pin QFN, Industrial Temperature, Tape and Reel; Manufacturer: Microchip; PartNumber: MCP73871T-1CCI/ML; DatasheetVersion: revB, May-2009; PackageVersion: revBB, Aug-2009; PackageReference: QFN-ML20; PackageDescription: 20-Lead Plastic Quad Flat, No Lead Package (ML) - 4x4x0.9 mm Body [QFN]; Mounting Technology: Surface Mount; ComponentLink1Description: Manufacturer URL; ComponentLink1URL: http://www.microchip.com/; ComponentLink2Description: Datasheet; ComponentLink2URL: http://ww1.microchip.com/downloads/en/DeviceDoc/22090b.pdf; ComponentLink3Description: Package Specification; ComponentLink3URL: http://www.microchip.com/stellent/groups/techpub_sg/documents/packagingspec/en012702.pdf
footprint QFN-ML20_N (QFN, 20-Leads, Body 4x4mm, Pitch 0.5mm, Thermal Pad 2.8x2.8mm, IPC Medium Density)
footprint QFN-ML20_L (QFN, 20-Leads, Body 4x4mm, Pitch 0.5mm, Thermal Pad 2.8x2.8mm, IPC High Density)
footprint QFN-ML20_M (QFN, 20-Leads, Body 4x4mm, Pitch 0.5mm, Thermal Pad 2.8x2.8mm, IPC Low Density)
pins: 1 OUT (out), 2 VPCC (in), 3 SEL (in), 4 PROG2 (in), 5 THERM (io), 6 ~{PG} (oc), 7 STAT2 (oc), 8 STAT1/~{LBO} (oc), 9 ~{TE} (in), 10 VSS (power), 11 VSS (power), 12 PROG3 (io), 13 PROG1 (io), 14 VBAT (power), 15 VBAT (power), 16 VBAT_SNS (power), 17 CE (in), 18 IN (power), 19 IN (power), 20 OUT (out), 21 EP (power)

## MCP73871T-2AAI/ML
designator U?
Stand-Alone System Load Sharing and Li-Ion / Li-Polymer Battery Charge Management Controller, 0.5% Voltage Regulation Accuracy, 4.4 to 6 V Vcc, -40 to 85 degC, 20-pin QFN (ML20), Tape and Reel; Manufacturer: Microchip; PartNumber: MCP73871T-2AAI/ML; DatasheetVersion: Rev. B; PackageVersion: C04-126B; PackageReference: QFN-ML20; PackageDescription: 20-Lead Plastic Quad Flat, No Lead Package, 4 x 4 mm Body, 0.5 mm Pitch; Supplier 1: Digi-Key; Supplier Part Number 1: MCP73871T-2AAI/MLTR-ND; Supplier 2: Mouser; Supplier Part Number 2: 579-MCP73871T2AAIML; Mounting Technology: Surface Mount; ComponentLink1Description: Manufacturer URL; ComponentLink1URL: http://www.microchip.com; ComponentLink2Description: Datasheet; ComponentLink2URL: http://ww1.microchip.com/downloads/en/DeviceDoc/22090b.pdf; ComponentLink3Description: Package Specification; ComponentLink3URL: http://www.microchip.com/stellent/groups/techpub_sg/documents/packagingspec/en012702.pdf; ComponentLink4Description: Product URL; ComponentLink4URL: http://www.microchip.com/MCP73871
footprint MCHP-QFN-ML20_N (QFN, 20-Leads, Body 4x4mm, Pitch 0.5mm, Thermal Pad 2.7X2.7mm, IPC Medium Density)
footprint MCHP-QFN-ML20_L (QFN, 20-Leads, Body 4x4mm, Pitch 0.5mm, Thermal Pad 2.7X2.7mm, IPC High Density)
footprint MCHP-QFN-ML20_M (QFN, 20-Leads, Body 4x4mm, Pitch 0.5mm, Thermal Pad 2.7X2.7mm, IPC Low Density)
pins: 1 OUT (power) "System Output Terminal", 2 VPCC (in) "Voltage proportional charge control", 3 SEL (in) "Input type selection (Low for USB port, High for ac-dc adapter)", 4 PROG2 (in) "USB port input current limit selection when SEL = Low. (Low = 100 mA, High = 500 mA)", 5 THERM (in) "Thermistor monitoring input and bias current", 6 ~{PG} (hiz) "Power-Good Status Output (Open-Drain)", 7 STAT2 (hiz) "Charge Status Output 2 (Open-Drain)", 8 STAT1 /~{LBO} (hiz) "Charge Status Output 1 (Open-Drain). Low battery output indicator when VBAT > VIN", 9 ~{TE} (in) "Timer Enable; Enables Safety Timer when active Low", 10 VSS (power) "Battery Management 0V Reference.", 11 VSS (power) "Battery Management 0V Reference.", 12 PROG3 (in) "Termination set point for both ac-dc adapter and USB port", 13 PROG1 (in) "Fast charge current regulation setting with SEL = High. Preconditioning set point for both USB port and ac-dc adapter.", 14 VBAT (power) "Battery Positive Input and Output connection", 15 VBAT (power) "Battery Positive Input and Output connection", 16 VBAT_SENSE (in) "Battery Voltage Sense", 17 CE (in) "Device Charge Enable; Enabled when CE = High", 18 IN (power) "Power Supply Input.", 19 IN (power) "Power Supply Input.", 20 OUT (power) "System Output Terminal", 21 EP (power) "EP (Exposed Thermal Pad); There is an internal electrical connection between the exposed thermal pad and VSS. The EP must be connected to the same potential as the VSS pin on the Printed Circuit Board (PCB)"

## MCP73871T-4CAI/ML
designator U?
Stand-Alone System Load Sharing and Li-Ion/Li-Polymer Battery Charge Management Controller, 4.4V, 20-Pin QFN, Industrial Temperature, Tape and Reel; Manufacturer: Microchip; PartNumber: MCP73871T-4CAI/ML; DatasheetVersion: revB, May-2009; PackageVersion: revBB, Aug-2009; PackageReference: QFN-ML20; PackageDescription: 20-Lead Plastic Quad Flat, No Lead Package (ML) - 4x4x0.9 mm Body [QFN]; Mounting Technology: Surface Mount; ComponentLink1Description: Manufacturer URL; ComponentLink1URL: http://www.microchip.com/; ComponentLink2Description: Datasheet; ComponentLink2URL: http://ww1.microchip.com/downloads/en/DeviceDoc/22090b.pdf; ComponentLink3Description: Package Specification; ComponentLink3URL: http://www.microchip.com/stellent/groups/techpub_sg/documents/packagingspec/en012702.pdf
footprint QFN-ML20_N (QFN, 20-Leads, Body 4x4mm, Pitch 0.5mm, Thermal Pad 2.8x2.8mm, IPC Medium Density)
footprint QFN-ML20_L (QFN, 20-Leads, Body 4x4mm, Pitch 0.5mm, Thermal Pad 2.8x2.8mm, IPC High Density)
footprint QFN-ML20_M (QFN, 20-Leads, Body 4x4mm, Pitch 0.5mm, Thermal Pad 2.8x2.8mm, IPC Low Density)
pins: 1 OUT (out), 2 VPCC (in), 3 SEL (in), 4 PROG2 (in), 5 THERM (io), 6 ~{PG} (oc), 7 STAT2 (oc), 8 STAT1/~{LBO} (oc), 9 ~{TE} (in), 10 VSS (power), 11 VSS (power), 12 PROG3 (io), 13 PROG1 (io), 14 VBAT (power), 15 VBAT (power), 16 VBAT_SNS (power), 17 CE (in), 18 IN (power), 19 IN (power), 20 OUT (out), 21 EP (power)